# EAGLE library part GRPB052VWQP (library con-sullins-grpb)
HEADER
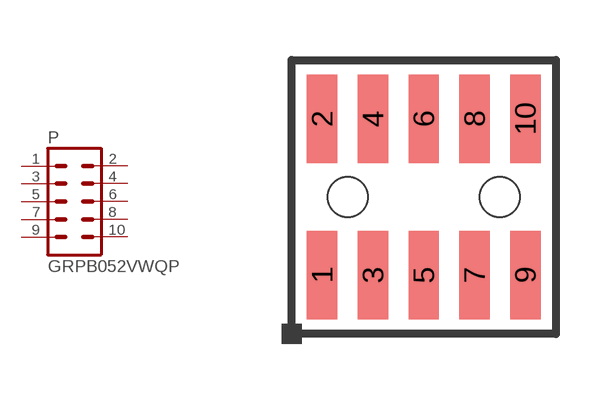
[diagram p2: symbol with the pads of GRPB052VWQP; footprint GRPB052VWQP]

Designator prefix P

## GRPB052VWQP  [GRPB052VWQP]
1  1  pas
2  2  pas
3  3  pas
4  4  pas
5  5  pas
6  6  pas
7  7  pas
8  8  pas
9  9  pas
10  10  pas

## Footprint GRPB052VWQP (pad centres in mm)
HEADER
smd 0.762 x 2.21: 1 -2.54,-1.956; 2 -2.54,1.956; 3 -1.27,-1.956; 4 -1.27,1.956; 5 0,-1.956; 6 0,1.956; 7 1.27,-1.956; 8 1.27,1.956; 9 2.54,-1.956; 10 2.54,1.956
hole 1 at -1.905,0
hole 1 at 1.905,0